# EAGLE library part UE27AC54100 (library keves)
UE27AC54100 CONN RCPT USB TYPE A R/A GOLD
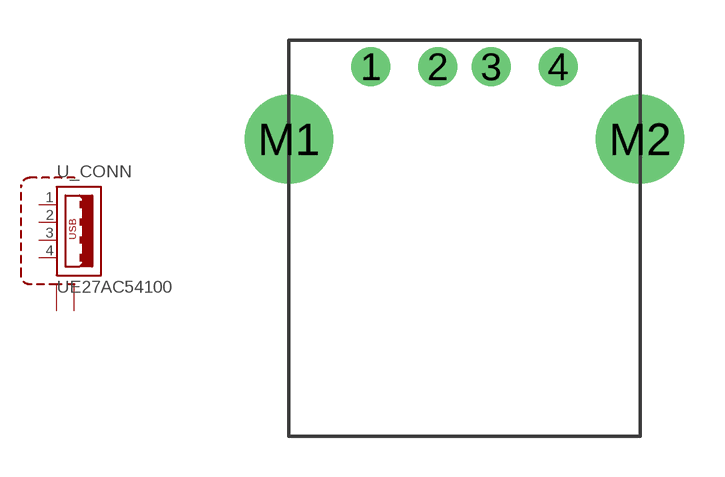
[diagram p18: symbol with the pads of UE27AC54100; footprint UE27AC54100]

Designator prefix -; gates _CONN=USB_HOST G$2=SHIELD2

## UE27AC54100  [UE27AC54100]
1  _CONN:1  pas
2  _CONN:2  pas
3  _CONN:3  pas
4  _CONN:4  pas
M1  G$2:S1  pas
M2  G$2:S2  pas

## Footprint UE27AC54100 (pad centres in mm)
drill 0.95: 1 -3.5,0; 2 -1,0; 3 1,0; 4 3.5,0
drill 2.3: M1 -6.57,-2.71; M2 6.57,-2.71